# Altium schematic symbol library aghost_pcb_lib.SchLib: 258 symbols (part 3 of 3)
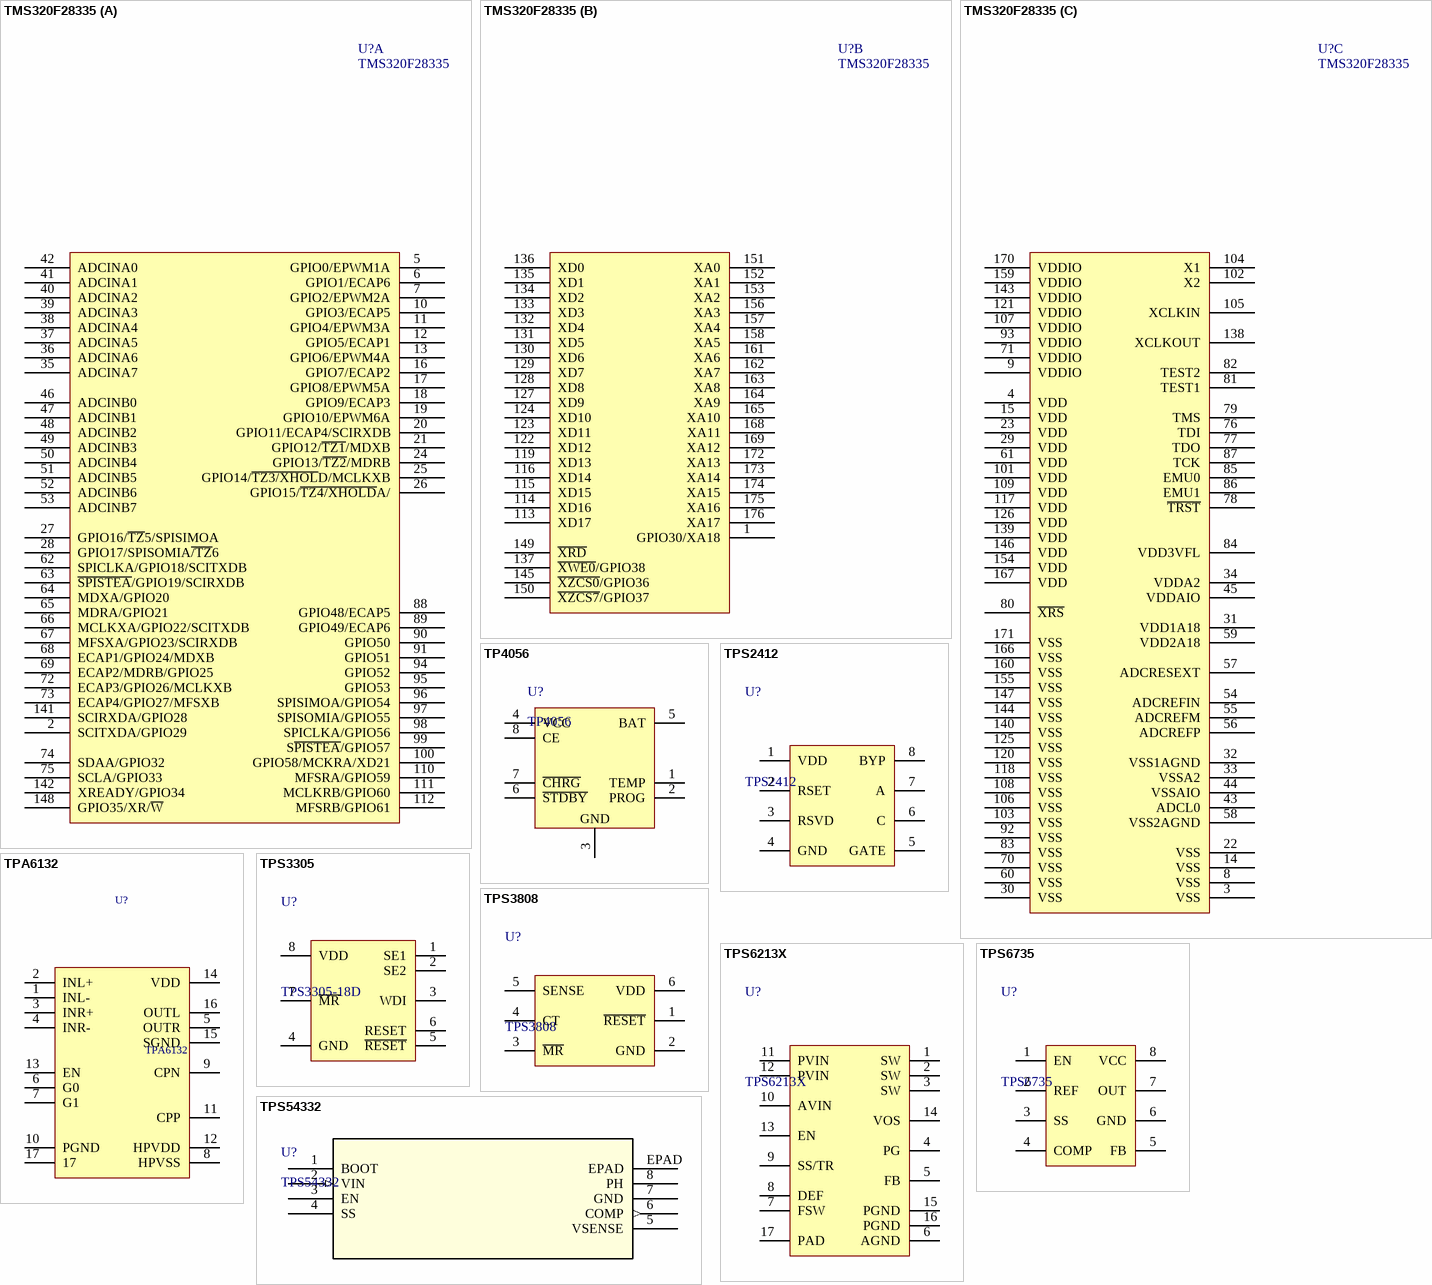
[diagram p18: symbols TMS320F28335 to TPS54332]

## TMS320F28335
designator U?
DSP芯片
footprint LQFP-176 (LQFP)
part A pins: 2 SCITXDA/GPIO29, 5 GPIO0/EPWM1A, 6 GPIO1/ECAP6, 7 GPIO2/EPWM2A, 10 GPIO3/ECAP5, 11 GPIO4/EPWM3A, 12 GPIO5/ECAP1, 13 GPIO6/EPWM4A, 16 GPIO7/ECAP2, 17 GPIO8/EPWM5A, 18 GPIO9/ECAP3, 19 GPIO10/EPWM6A, 20 GPIO11/ECAP4/SCIRXDB, 21 GPIO12/~{TZ1}/MDXB, 24 GPIO13/~{TZ2}/MDRB, 25 GPIO14/~{TZ3/XHOL}D/MCLKXB, 26 GPIO15/~{TZ4/XHOLD}A/, 27 GPIO16/~{TZ}5/SPISIMOA, 28 GPIO17/SPISOMIA~{/TZ}6, 35 ADCINA7, 36 ADCINA6, 37 ADCINA5, 38 ADCINA4, 39 ADCINA3, 40 ADCINA2, 41 ADCINA1, 42 ADCINA0, 46 ADCINB0, 47 ADCINB1, 48 ADCINB2, 49 ADCINB3, 50 ADCINB4, 51 ADCINB5, 52 ADCINB6, 53 ADCINB7, 62 SPICLKA/GPIO18/SCITXDB, 63 ~{SPISTEA}/GPIO19/SCIRXDB, 64 MDXA/GPIO20, 65 MDRA/GPIO21, 66 MCLKXA/GPIO22/SCITXDB, 67 MFSXA/GPIO23/SCIRXDB, 68 ECAP1/GPIO24/MDXB, 69 ECAP2/MDRB/GPIO25, 72 ECAP3/GPIO26/MCLKXB, 73 ECAP4/GPIO27/MFSXB, 74 SDAA/GPIO32, 75 SCLA/GPIO33, 88 GPIO48/ECAP5, 89 GPIO49/ECAP6, 90 GPIO50, 91 GPIO51, 94 GPIO52, 95 GPIO53, 96 SPISIMOA/GPIO54, 97 SPISOMIA/GPIO55, 98 SPICLKA/GPIO56, 99 S~{PISTEA}/GPIO57, 100 GPIO58/MCKRA/XD21, 110 MFSRA/GPIO59, 111 MCLKRB/GPIO60, 112 MFSRB/GPIO61, 141 SCIRXDA/GPIO28, 142 XREADY/GPIO34, 148 GPIO35/XR/~{W}
part B pins: 1 GPIO30/XA18, 113 XD17, 114 XD16, 115 XD15, 116 XD14, 119 XD13, 122 XD12, 123 XD11, 124 XD10, 127 XD9, 128 XD8, 129 XD7, 130 XD6, 131 XD5, 132 XD4, 133 XD3, 134 XD2, 135 XD1, 136 XD0, 137 ~{XWE0}/GPIO38, 145 ~{XZCS0}/GPIO36, 149 ~{XRD}, 150 ~{XZCS7}/GPIO37, 151 XA0, 152 XA1, 153 XA2, 156 XA3, 157 XA4, 158 XA5, 161 XA6, 162 XA7, 163 XA8, 164 XA9, 165 XA10, 168 XA11, 169 XA12, 172 XA13, 173 XA14, 174 XA15, 175 XA16, 176 XA17
part C pins: 3 VSS, 4 VDD, 8 VSS, 9 VDDIO, 14 VSS, 15 VDD, 22 VSS, 23 VDD, 29 VDD, 30 VSS, 31 VDD1A18, 32 VSS1AGND, 33 VSSA2, 34 VDDA2, 43 ADCL0, 44 VSSAIO, 45 VDDAIO, 54 ADCREFIN, 55 ADCREFM, 56 ADCREFP, 57 ADCRESEXT, 58 VSS2AGND, 59 VDD2A18, 60 VSS, 61 VDD, 70 VSS, 71 VDDIO, 76 TDI, 77 TDO, 78 ~{TRST}, 79 TMS, 80 ~{XRS}, 81 TEST1, 82 TEST2, 83 VSS, 84 VDD3VFL, 85 EMU0, 86 EMU1, 87 TCK, 92 VSS, 93 VDDIO, 101 VDD, 102 X2, 103 VSS, 104 X1, 105 XCLKIN, 106 VSS, 107 VDDIO, 108 VSS, 109 VDD, 117 VDD, 118 VSS, 120 VSS, 121 VDDIO, 125 VSS, 126 VDD, 138 XCLKOUT, 139 VDD, 140 VSS, 143 VDDIO, 144 VSS, 146 VDD, 147 VSS, 154 VDD, 155 VSS, 159 VDDIO, 160 VSS, 166 VSS, 167 VDD, 170 VDDIO, 171 VSS

## TP4056
designator U?
锂电池充电管理
footprint SOIC-8P
pins: 1 TEMP, 2 PROG, 3 GND, 4 VCC, 5 BAT, 6 ~{STDBY}, 7 ~{CHRG}, 8 CE

## TPA6132
designator U?
footprint QFN-16 (QFN)
pins: 1 INL-, 2 INL+, 3 INR+, 4 INR-, 5 OUTR, 6 G0, 7 G1, 8 HPVSS, 9 CPN, 10 PGND, 11 CPP, 12 HPVDD, 13 EN, 14 VDD, 15 SGND, 16 OUTL, 17

## TPS2412
designator U?
PMIC,ORing
footprint SOIC-8
pins: 1 VDD, 2 RSET, 3 RSVD, 4 GND, 5 GATE, 6 C, 7 A, 8 BYP

## TPS3305
designator U?, comment TPS3305-18D
DSP电源管理
footprint MSOP-8 (TSOP)
pins: 1 SE1, 2 SE2, 3 WDI, 4 GND, 5 ~{RESET}, 6 RESET, 7 ~{MR}, 8 VDD

## TPS3808
designator U?
DSP电源管理
footprint SOT23-6 (Max4173)
pins: 1 ~{RESET}, 2 GND, 3 ~{MR}, 4 CT, 5 SENSE, 6 VDD

## TPS6213X
designator U?
DC-DC
footprint QFN-16 (QFN)
pins: 1 SW, 2 SW, 3 SW, 4 PG, 5 FB, 6 AGND, 7 FSW, 8 DEF, 9 SS/TR, 10 AVIN, 11 PVIN, 12 PVIN, 13 EN, 14 VOS, 15 PGND, 16 PGND, 17 PAD

## TPS6735
designator U?
负电压芯片
footprint SOIC-8
pins: 1 EN, 2 REF, 3 SS, 4 COMP, 5 FB, 6 GND, 7 OUT, 8 VCC

## TPS54332
designator U?
Manufacturer_Part_Number: tps54332_dda_8; Vendor: Texas Instruments; PACKAGE_DESIGNATOR: DDA; PIN_COUNT: 8; FAMILY_NAME: STEP-DOWN REGULATOR; INDUSTRY_STD_PKG_TYPE: SO PowerPAD; GENERIC_PART_NUMBER: TPS54332; Manufacturer: Texas Instruments; Datasheet_URL: http://www.ti.com/lit/gpn/TPS54332; Value: Value; Type: Type; RefDes: RefDes
footprint DDA8_3X2P13
pins: 1 BOOT, 2 VIN (in), 3 EN, 4 SS, 5 VSENSE, 6 COMP (out), 7 GND (power), 8 PH (power), EPAD

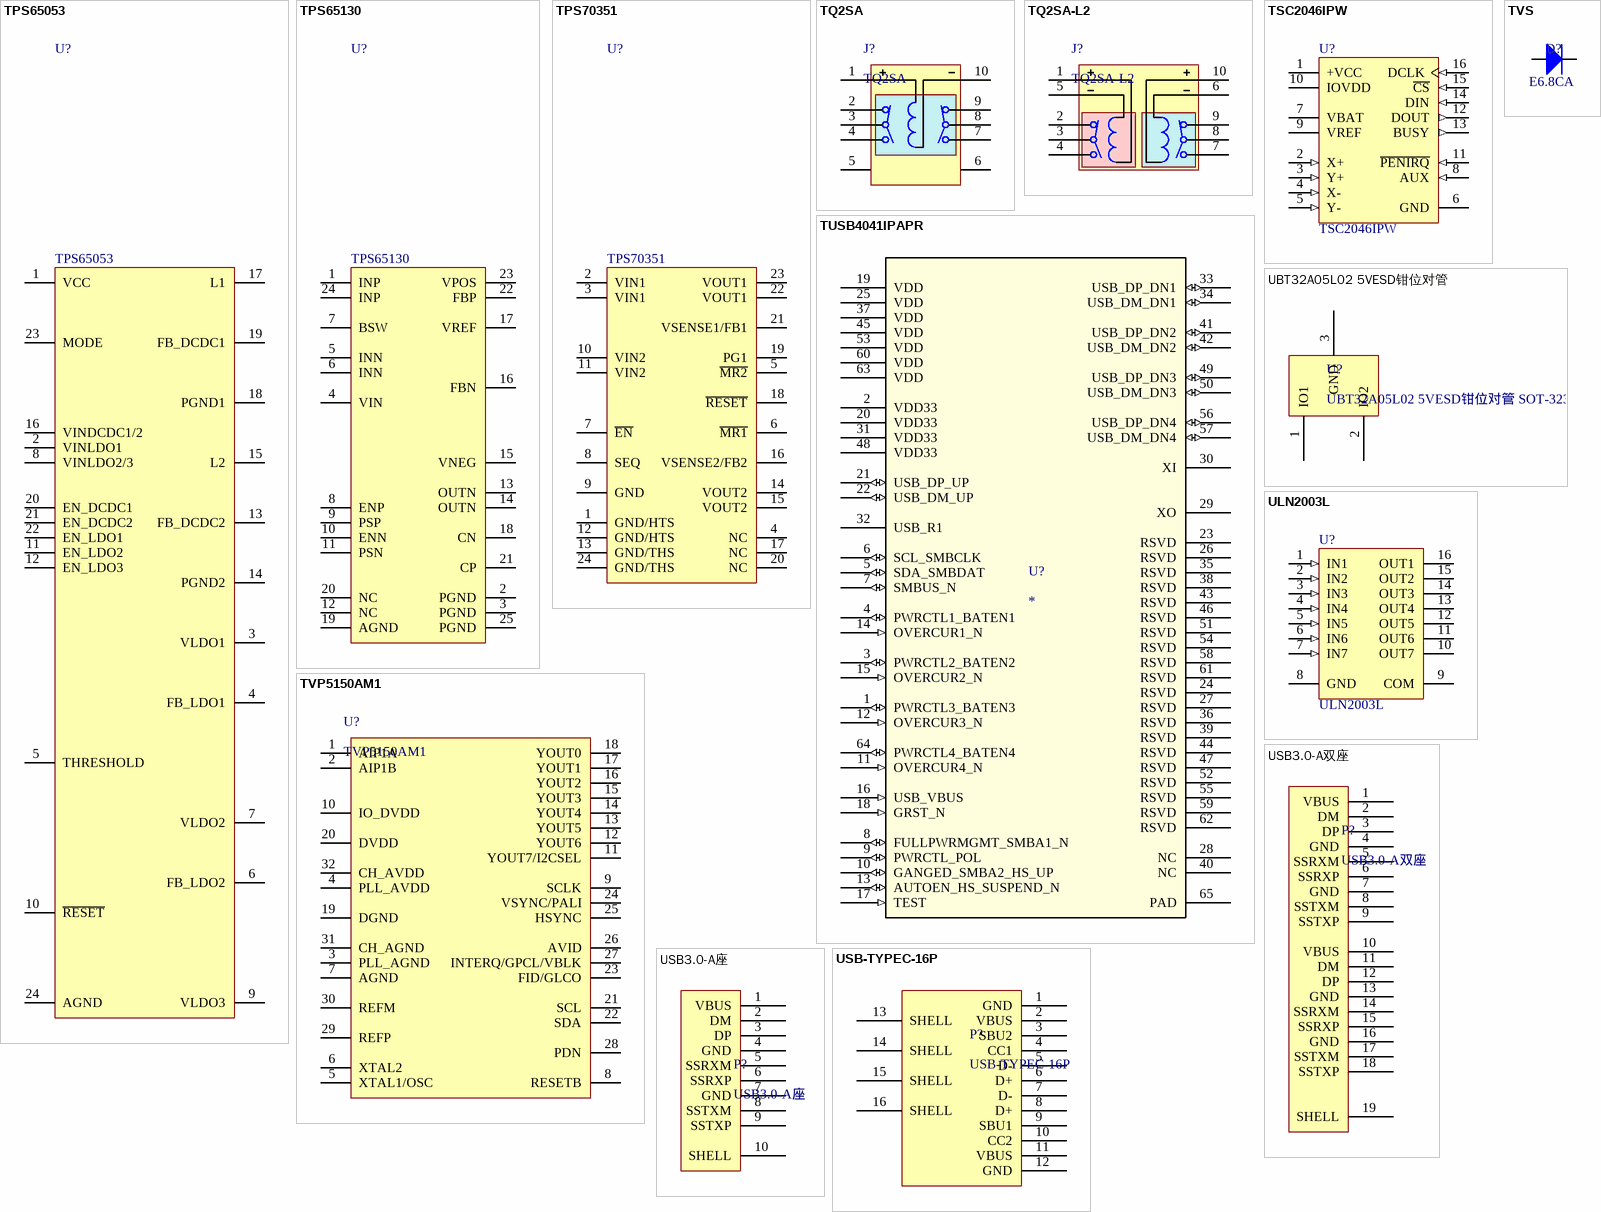
[diagram p15: symbols TPS65053 to USB-TYPEC-16P]

## TPS65053
designator U?
DSP电源芯片
footprint VQFN-24
pins: 1 VCC, 2 VINLDO1, 3 VLDO1, 4 FB_LDO1, 5 THRESHOLD, 6 FB_LDO2, 7 VLDO2, 8 VINLDO2/3, 9 VLDO3, 10 ~{RESET}, 11 EN_LDO2, 12 EN_LDO3, 13 FB_DCDC2, 14 PGND2, 15 L2, 16 VINDCDC1/2, 17 L1, 18 PGND1, 19 FB_DCDC1, 20 EN_DCDC1, 21 EN_DCDC2, 22 EN_LDO1, 23 MODE, 24 AGND, 25 GND hidden to GND

## TPS65130
designator U?
电源管理DC-DC
footprint VQFN-24
pins: 1 INP, 2 PGND, 3 PGND, 4 VIN, 5 INN, 6 INN, 7 BSW, 8 ENP, 9 PSP, 10 ENN, 11 PSN, 12 NC, 13 OUTN, 14 OUTN, 15 VNEG, 16 FBN, 17 VREF, 18 CN, 19 AGND, 20 NC, 21 CP, 22 FBP, 23 VPOS, 24 INP, 25 PGND

## TPS70351
designator U?
DSP电源芯片
footprint TSSOP-24P
pins: 1 GND/HTS, 2 VIN1, 3 VIN1, 4 NC, 5 ~{MR2}, 6 ~{MR1}, 7 ~{EN}, 8 SEQ, 9 GND, 10 VIN2, 11 VIN2, 12 GND/HTS, 13 GND/THS, 14 VOUT2, 15 VOUT2, 16 VSENSE2/FB2, 17 NC, 18 ~{RESET}, 19 PG1, 20 NC, 21 VSENSE1/FB1, 22 VOUT1, 23 VOUT1, 24 GND/THS, 25 GND hidden to GND

## TQ2SA
designator J?
单通道继电器
footprint TQ2SA-SL (双继电器)
pins: 1, 2, 3, 4, 5, 6, 7, 8, 9, 10

## TQ2SA-L2
designator J?
双通道双稳态继电器
footprint TQ2SA-SL (双继电器)
pins: 1, 2, 3, 4, 5, 6, 7, 8, 9, 10

## TSC2046IPW
designator U?
触摸驱动芯片; Published: 6-Oct-2005; DatasheetVersion: Jan-2005; PackageVersion: Feb-1999; PackageReference: PW016; Publisher: Altium Limited; PackageDescription: Shrink Small Outline; 16 Leads; Body Width 4.4 mm; Pitch 0.65 mm; ComponentLink1Description: Manufacturer Link; ComponentLink1URL: http://focus.ti.com/docs/prod/folders/print/tsc2046.html; ComponentLink2Description: Datasheet; ComponentLink2URL: http://focus.ti.com/lit/ds/symlink/tcs2046.pdf
footprint PW016 (Shrink Small Outline; 16 Leads; Body Width 4.4 mm; Pitch 0.65 mm)
pins: 1 +VCC (power), 2 X+ (in), 3 Y+ (in), 4 X- (in), 5 Y- (in), 6 GND (power), 7 VBAT (power), 8 AUX (in), 9 VREF (power), 10 IOVDD (power), 11 ~{PENIRQ} (in), 12 DOUT (out), 13 BUSY (out), 14 DIN (in), 15 ~{CS} (in), 16 DCLK (in)

## TUSB4041IPAPR
designator U?
Ti 4 Port Usb 2.0 Hub; Manufacturer: Texas Instruments; PartNumber: TUSB4041IPAPR; RefDes: RefDes; TYPE: TYPE; Value: Value
footprint PAP0064K_N
pins: 1 PWRCTL3_BATEN3 (io), 2 VDD33 (power), 3 PWRCTL2_BATEN2 (io), 4 PWRCTL1_BATEN1 (io), 5 SDA_SMBDAT (io), 6 SCL_SMBCLK (io), 7 SMBUS_N (io), 8 FULLPWRMGMT_SMBA1_N (io), 9 PWRCTL_POL (io), 10 GANGED_SMBA2_HS_UP (io), 11 OVERCUR4_N (in), 12 OVERCUR3_N (in), 13 AUTOEN_HS_SUSPEND_N (io), 14 OVERCUR1_N (in), 15 OVERCUR2_N (in), 16 USB_VBUS (in), 17 TEST (in), 18 GRST_N (in), 19 VDD (power), 20 VDD33 (power), 21 USB_DP_UP (io), 22 USB_DM_UP (io), 23 RSVD, 24 RSVD, 25 VDD (power), 26 RSVD, 27 RSVD, 28 NC, 29 XO, 30 XI, 31 VDD33 (power), 32 USB_R1, 33 USB_DP_DN1 (io), 34 USB_DM_DN1 (io), 35 RSVD, 36 RSVD, 37 VDD (power), 38 RSVD, 39 RSVD, 40 NC, 41 USB_DP_DN2 (io), 42 USB_DM_DN2 (io), 43 RSVD, 44 RSVD, 45 VDD (power), 46 RSVD, 47 RSVD, 48 VDD33 (power), 49 USB_DP_DN3 (io), 50 USB_DM_DN3 (io), 51 RSVD, 52 RSVD, 53 VDD (power), 54 RSVD, 55 RSVD, 56 USB_DP_DN4 (io), 57 USB_DM_DN4 (io), 58 RSVD, 59 RSVD, 60 VDD (power), 61 RSVD, 62 RSVD, 63 VDD (power), 64 PWRCTL4_BATEN4 (io), 65 PAD (power)

## TVP5150AM1
designator U?
视频解码芯片
footprint TQFP-32
pins: 1 AIP1A, 2 AIP1B, 3 PLL_AGND, 4 PLL_AVDD, 5 XTAL1/OSC, 6 XTAL2, 7 AGND, 8 RESETB, 9 SCLK, 10 IO_DVDD, 11 YOUT7/I2CSEL, 12 YOUT6, 13 YOUT5, 14 YOUT4, 15 YOUT3, 16 YOUT2, 17 YOUT1, 18 YOUT0, 19 DGND, 20 DVDD, 21 SCL, 22 SDA, 23 FID/GLCO, 24 VSYNC/PALI, 25 HSYNC, 26 AVID, 27 INTERQ/GPCL/VBLK, 28 PDN, 29 REFP, 30 REFM, 31 CH_AGND, 32 CH_AVDD

## TVS
designator D?  Type: E6.8CA  (hidden comment: TVS)
TVS保护; Published: 8-Jun-2000; LatestRevisionDate: 17-Jul-2002; LatestRevisionNote: Re-released for DXP Platform.; PackageDocument: Sep-1996; PackageReference: SMC; Publisher: Altium Limited; Code_JEDEC: DO-214-AB
footprint D-AXL (插件二极管)
footprint D-1206 (贴片二极管)
footprint D-SMA (贴片二极管)
footprint D-SMB (DO-214-AA/SMB; 2 C-Bend Leads; Body 5.3 x 3.6 mm, inc. leads (LxW))
pins: 1 A, 2 K

## UBT32A05L02 5VESD钳位对管
designator U?, comment UBT32A05L02 5VESD钳位对管 SOT-323
footprint SOT-323(SC-70)
pins: 1 IO1, 2 IO2, 3 GND

## ULN2003L
designator U?
驱动芯片; Published: 13-Oct-2000; LatestRevisionDate: 13-Apr-2006; LatestRevisionNote: IPC-7351 Footprint Added.; DatasheetVersion: 1998; PackageReference: L16; Publisher: Altium Limited; PackageDescription: 16-Pin Small Outline Integrated Circuit 1.27 mm Pitch; Code_JEDEC: MS-012-AC; Code_IPC: SOIC127P600-16; ComponentLink1Description: Manufacturer Link; ComponentLink1URL: http://www.allegromicro.com/
footprint SOIC-16
pins: 1 IN1 (in), 2 IN2 (in), 3 IN3 (in), 4 IN4 (in), 5 IN5 (in), 6 IN6 (in), 7 IN7 (in), 8 GND (power), 9 COM, 10 OUT7 (oc), 11 OUT6 (oc), 12 OUT5 (oc), 13 OUT4 (oc), 14 OUT3 (oc), 15 OUT2 (oc), 16 OUT1 (oc)

## USB3.0-A双座
designator P?
footprint USB3.0-A-双座-14.9mm-180度 (https://item.taobao.com/item.htm?id=573588277735)
pins: 1 VBUS, 2 DM, 3 DP, 4 GND, 5 SSRXM, 6 SSRXP, 7 GND, 8 SSTXM, 9 SSTXP, 10 VBUS, 11 DM, 12 DP, 13 GND, 14 SSRXM, 15 SSRXP, 16 GND, 17 SSTXM, 18 SSTXP, 19 SHELL

## USB3.0-A座
designator P?
footprint USB3.0-A-13.7mm-180度 (https://item.taobao.com/item.htm?id=568667487176)
pins: 1 VBUS, 2 DM, 3 DP, 4 GND, 5 SSRXM, 6 SSRXP, 7 GND, 8 SSTXM, 9 SSTXP, 10 SHELL

## USB-TYPEC-16P
designator P?
https://item.taobao.com/item.htm?id=537816272673
footprint usb-typec-16p-smt (https://item.taobao.com/item.htm?id=537816272673)
pins: 1 GND, 2 VBUS, 3 SBU2, 4 CC1, 5 D-, 6 D+, 7 D-, 8 D+, 9 SBU1, 10 CC2, 11 VBUS, 12 GND, 13 SHELL, 14 SHELL, 15 SHELL, 16 SHELL

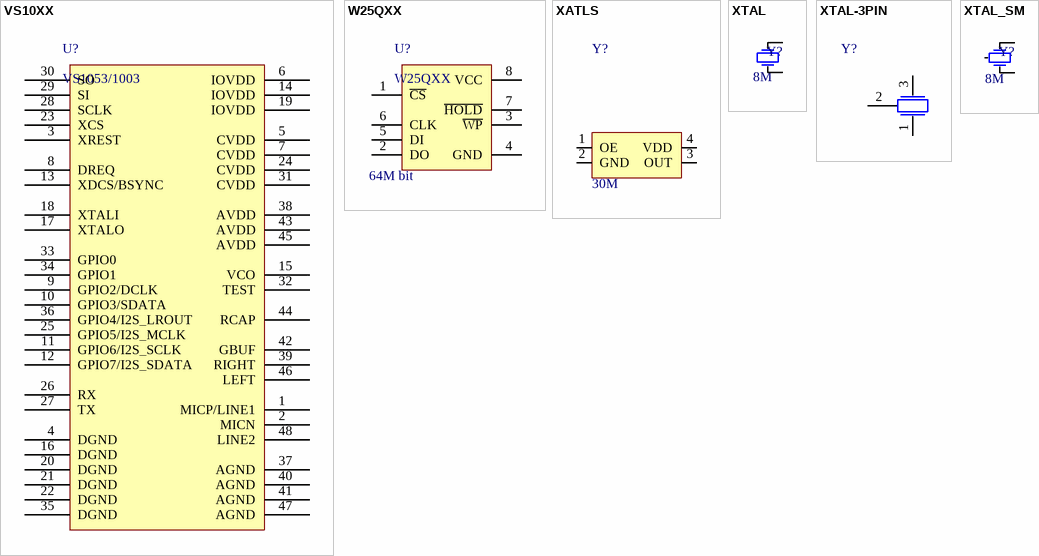
[diagram p16: symbols VS10XX to XTAL_SM]

## VS10XX
designator U?, comment VS1053/1003
音频解码芯片
footprint LQFP-48 (LQFP)
pins: 1 MICP/LINE1, 2 MICN, 3 XREST, 4 DGND, 5 CVDD, 6 IOVDD, 7 CVDD, 8 DREQ, 9 GPIO2/DCLK, 10 GPIO3/SDATA, 11 GPIO6/I2S_SCLK, 12 GPIO7/I2S_SDATA, 13 XDCS/BSYNC, 14 IOVDD, 15 VCO, 16 DGND, 17 XTALO, 18 XTALI, 19 IOVDD, 20 DGND, 21 DGND, 22 DGND, 23 XCS, 24 CVDD, 25 GPIO5/I2S_MCLK, 26 RX, 27 TX, 28 SCLK, 29 SI, 30 SO, 31 CVDD, 32 TEST, 33 GPIO0, 34 GPIO1, 35 DGND, 36 GPIO4/I2S_LROUT, 37 AGND, 38 AVDD, 39 RIGHT, 40 AGND, 41 AGND, 42 GBUF, 43 AVDD, 44 RCAP, 45 AVDD, 46 LEFT, 47 AGND, 48 LINE2

## W25QXX
designator U?  Memory: 64M bit
SPI FLASH
footprint SOIC-8W (SPI_FLASH)
pins: 1 ~{CS}, 2 DO, 3 ~{WP}, 4 GND, 5 DI, 6 CLK, 7 ~{HOLD}, 8 VCC

## XATLS
designator Y?  value 30M  (hidden comment: XATLS)
贴片有源晶振
footprint X-CPX75
pins: 1 OE, 2 GND, 3 OUT, 4 VDD

## XTAL
designator Y?  value 8M  (hidden comment: XTAL)
晶振; Published: 8-Jun-2000; LatestRevisionDate: 17-Jul-2002; LatestRevisionNote: Re-released for DXP Platform.; PackageReference: R38; Publisher: Altium Limited
footprint X-HC-49S (插件晶振)
footprint X-SM49
pins: 1 OSC1, 2 OSC2

## XTAL-3PIN
designator Y?  (value not drawn)
贴片晶振
footprint X-CPX20 (贴片晶振)
pins: 1, 2, 3

## XTAL_SM
designator Y?  value 8M  (hidden comment: XTAL_SM)
圆柱晶振; Published: 8-Jun-2000; LatestRevisionDate: 17-Jul-2002; LatestRevisionNote: Re-released for DXP Platform.; PackageReference: R38; Publisher: Altium Limited
footprint X-TC15 (圆柱晶振1)
footprint X-TC26 (圆柱晶振2)
pins: 1 OSC1, 2 OSC2, 3